# Altium footprint library 高通MSM8916 原理图+PCB Layout_QRD8916_2-4-2_half type_main board_V1.01.PcbLib: 113 footprints (part 3 of 8)
Each footprint in its own frame and in the unit in brackets; x right, y up, seen from the top. Pads: shape width x height; smd on the part's side, far side on the other; paste and mask are expansions set on the pad; w line width, h text height; cw(c..) or ccw(c..) is an arc to the next point about the centre after c.
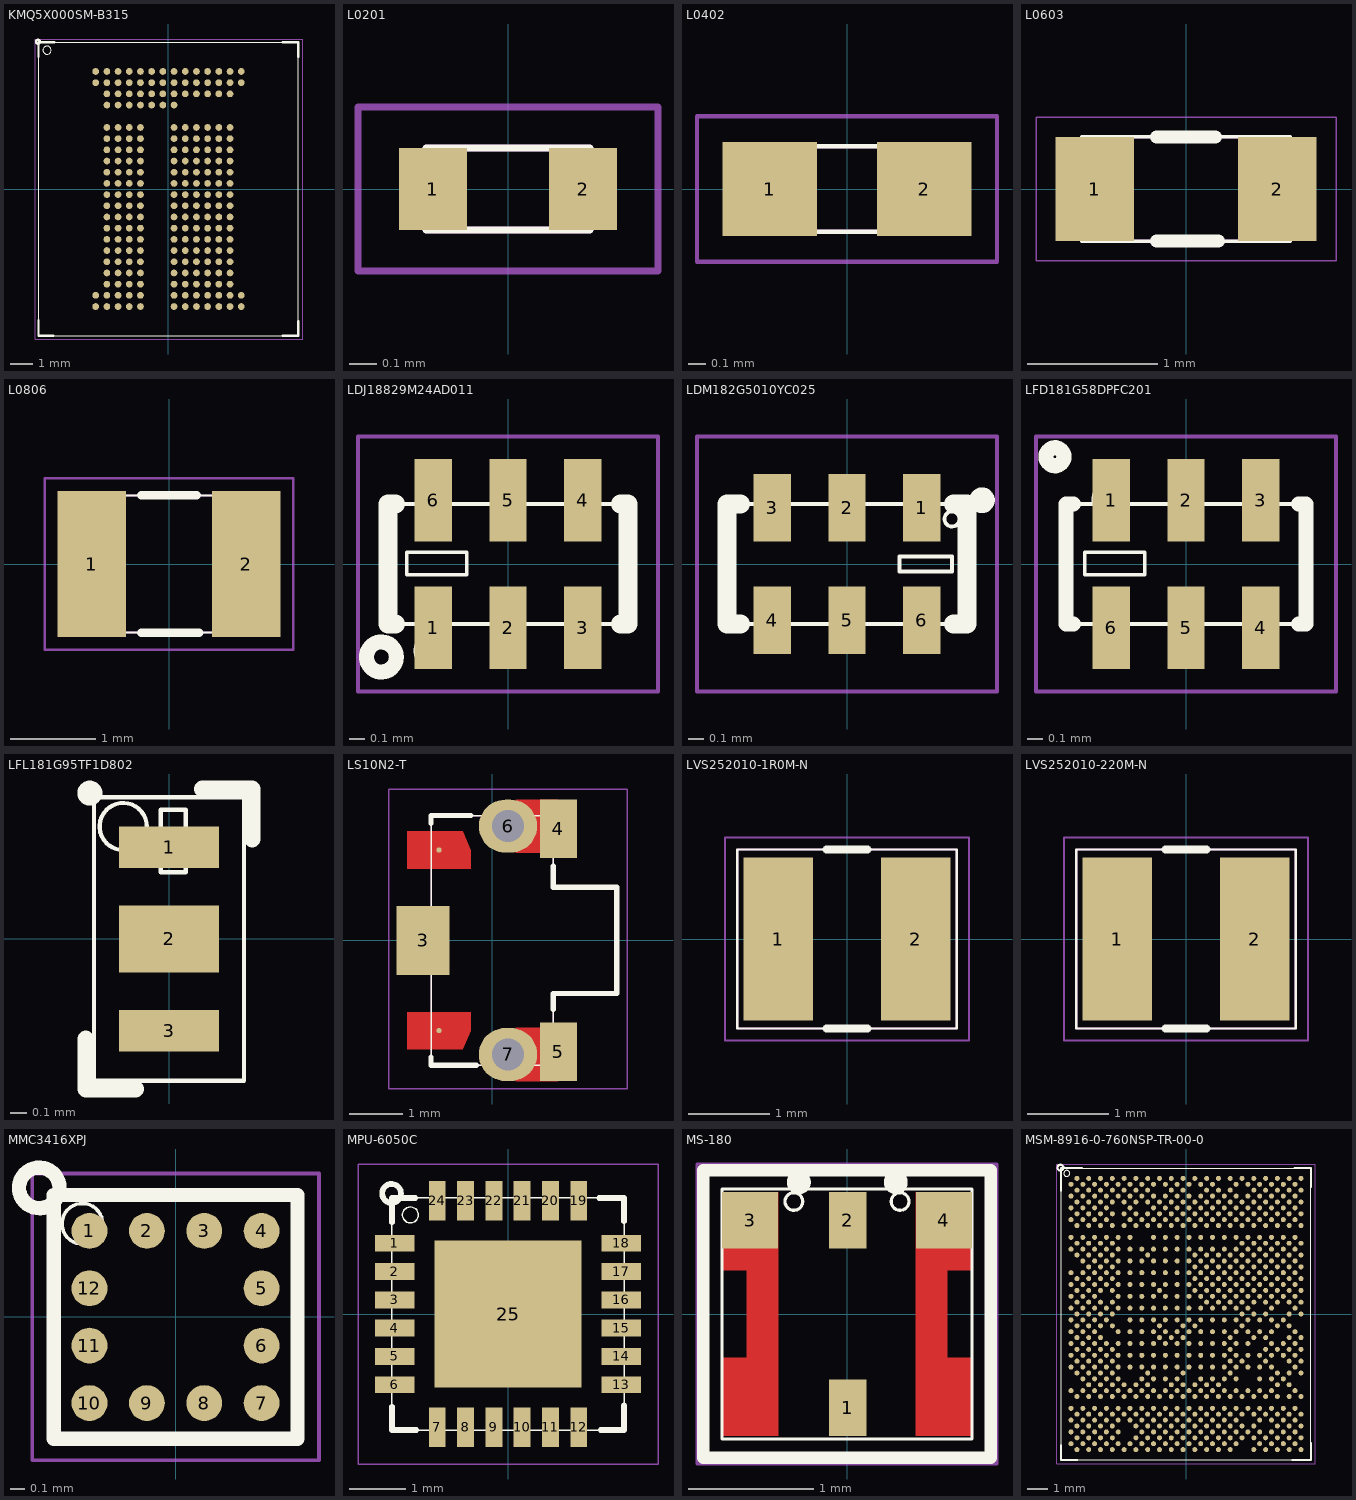
[diagram p2: the footprints below, top view; thin cyan lines are the x and y axes]

## KMQ5X000SM-B315 [mm]
height 1
pads (221):
  round 0.3 smd mask+0.05: A1(-3.25,5.25) A2(-2.75,5.25) A3(-2.25,5.25) A4(-1.75,5.25) A5(-1.25,5.25) A6(-0.75,5.25) A7(-0.25,5.25) A8(0.25,5.25) A9(0.75,5.25) A10(1.25,5.25) A11(1.75,5.25) A12(2.25,5.25) A13(2.75,5.25) A14(3.25,5.25) AA1(-3.25,-4.75) AA2(-2.75,-4.75) AA3(-2.25,-4.75) AA4(-1.75,-4.75) AA5(-1.25,-4.75) AA8(0.25,-4.75) AA9(0.75,-4.75) AA10(1.25,-4.75) AA11(1.75,-4.75) AA12(2.25,-4.75) AA13(2.75,-4.75) AA14(3.25,-4.75) AB1(-3.25,-5.25) AB2(-2.75,-5.25) AB3(-2.25,-5.25) AB4(-1.75,-5.25) AB5(-1.25,-5.25) AB8(0.25,-5.25) AB9(0.75,-5.25) AB10(1.25,-5.25) AB11(1.75,-5.25) AB12(2.25,-5.25) AB13(2.75,-5.25) AB14(3.25,-5.25) B1(-3.25,4.75) B2(-2.75,4.75) B3(-2.25,4.75) B4(-1.75,4.75) B5(-1.25,4.75) B6(-0.75,4.75) B7(-0.25,4.75) B8(0.25,4.75) B9(0.75,4.75) B10(1.25,4.75) B11(1.75,4.75) B12(2.25,4.75) B13(2.75,4.75) B14(3.25,4.75) C2(-2.75,4.25) C3(-2.25,4.25) C4(-1.75,4.25) C5(-1.25,4.25) C6(-0.75,4.25) C7(-0.25,4.25) C8(0.25,4.25) C9(0.75,4.25) C10(1.25,4.25) C11(1.75,4.25) C12(2.25,4.25) C13(2.75,4.25) D2(-2.75,3.75) D3(-2.25,3.75) D4(-1.75,3.75) D5(-1.25,3.75) D6(-0.75,3.75) D7(-0.25,3.75) D8(0.25,3.75) F2(-2.75,2.75) F3(-2.25,2.75) F4(-1.75,2.75) F5(-1.25,2.75) F8(0.25,2.75) F9(0.75,2.75) F10(1.25,2.75) F11(1.75,2.75) F12(2.25,2.75) F13(2.75,2.75) G2(-2.75,2.25) G3(-2.25,2.25) G4(-1.75,2.25) G5(-1.25,2.25) G8(0.25,2.25) G9(0.75,2.25) G10(1.25,2.25) G11(1.75,2.25) G12(2.25,2.25) G13(2.75,2.25) H2(-2.75,1.75) H3(-2.25,1.75) H4(-1.75,1.75) H5(-1.25,1.75) H8(0.25,1.75) H9(0.75,1.75) H10(1.25,1.75) H11(1.75,1.75) H12(2.25,1.75) H13(2.75,1.75) J2(-2.75,1.25) J3(-2.25,1.25) J4(-1.75,1.25) J5(-1.25,1.25) J8(0.25,1.25) J9(0.75,1.25) J10(1.25,1.25) J11(1.75,1.25) J12(2.25,1.25) J13(2.75,1.25) K2(-2.75,0.75) K3(-2.25,0.75) K4(-1.75,0.75) K5(-1.25,0.75) K8(0.25,0.75) K9(0.75,0.75) K10(1.25,0.75) K11(1.75,0.75) K12(2.25,0.75) K13(2.75,0.75) L2(-2.75,0.25) L3(-2.25,0.25) L4(-1.75,0.25) L5(-1.25,0.25) L8(0.25,0.25) L9(0.75,0.25) L10(1.25,0.25) L11(1.75,0.25) L12(2.25,0.25) L13(2.75,0.25) M2(-2.75,-0.25) M3(-2.25,-0.25) M4(-1.75,-0.25) M5(-1.25,-0.25) M8(0.25,-0.25) M9(0.75,-0.25) M10(1.25,-0.25) M11(1.75,-0.25) M12(2.25,-0.25) M13(2.75,-0.25) N2(-2.75,-0.75) N3(-2.25,-0.75) N4(-1.75,-0.75) N5(-1.25,-0.75) N8(0.25,-0.75) N9(0.75,-0.75) N10(1.25,-0.75) N11(1.75,-0.75) N12(2.25,-0.75) N13(2.75,-0.75) P2(-2.75,-1.25) P3(-2.25,-1.25) P4(-1.75,-1.25) P5(-1.25,-1.25) P8(0.25,-1.25) P9(0.75,-1.25) P10(1.25,-1.25) P11(1.75,-1.25) P12(2.25,-1.25) P13(2.75,-1.25) R2(-2.75,-1.75) R3(-2.25,-1.75) R4(-1.75,-1.75) R5(-1.25,-1.75) R8(0.25,-1.75) R9(0.75,-1.75) R10(1.25,-1.75) R11(1.75,-1.75) R12(2.25,-1.75) R13(2.75,-1.75) T2(-2.75,-2.25) T3(-2.25,-2.25) T4(-1.75,-2.25) T5(-1.25,-2.25) T8(0.25,-2.25) T9(0.75,-2.25) T10(1.25,-2.25) T11(1.75,-2.25) T12(2.25,-2.25) T13(2.75,-2.25) U2(-2.75,-2.75) U3(-2.25,-2.75) U4(-1.75,-2.75) U5(-1.25,-2.75) U8(0.25,-2.75) U9(0.75,-2.75) U10(1.25,-2.75) U11(1.75,-2.75) U12(2.25,-2.75) U13(2.75,-2.75) V2(-2.75,-3.25) V3(-2.25,-3.25) V4(-1.75,-3.25) V5(-1.25,-3.25) V8(0.25,-3.25) V9(0.75,-3.25) V10(1.25,-3.25) V11(1.75,-3.25) V12(2.25,-3.25) V13(2.75,-3.25) W2(-2.75,-3.75) W3(-2.25,-3.75) W4(-1.75,-3.75) W5(-1.25,-3.75) W8(0.25,-3.75) W9(0.75,-3.75) W10(1.25,-3.75) W11(1.75,-3.75) W12(2.25,-3.75) W13(2.75,-3.75) Y2(-2.75,-4.25) Y3(-2.25,-4.25) Y4(-1.75,-4.25) Y5(-1.25,-4.25) Y8(0.25,-4.25) Y9(0.75,-4.25) Y10(1.25,-4.25) Y11(1.75,-4.25) Y12(2.25,-4.25) Y13(2.75,-4.25)
Top Overlay:
  circle w0.025: c-5.425,6.2 r0.182
  circle w0.1: c-5.825,6.575 r0.09
  lines w0.025: -5.8,-6.55 5.8,-6.55 5.8,6.55 -5.8,6.55 -5.8,-6.55
  lines w0.1: -5.8,-5.85 -5.8,-6.55 -5.15,-6.55 ; -5.8,5.9 -5.8,6.55 -5.1,6.55 ; 5.1,-6.55 5.8,-6.55 5.8,-5.9 ; 5.1,6.55 5.8,6.55 5.8,5.9
Top Assembly:
  lines w0.025: -5.95,-6.7 6,-6.7 6,6.7 -5.95,6.7 -5.95,-6.7

## L0201 [mm]
height 0.35
pads (2):
  rect 0.25x0.3 smd mask+0.05: 1(-0.275,0) 2(0.275,0)
Top Overlay:
  lines w0.025: -0.3,-0.15 0.3,-0.15 0.3,0.15 -0.3,0.15 -0.3,-0.15
Top Assembly:
  lines w0.025: -0.55,-0.3 0.55,-0.3 0.55,0.3 -0.55,0.3 -0.55,-0.3
Mechanical 9:
  lines w0.025: -0.3,-0.15 0.3,-0.15 0.3,0.15 -0.3,0.15 -0.3,-0.15

## L0402 [mm]
height 0.6
pads (2):
  rect 0.55x0.55 smd paste-0.05 mask+0.05: 1(-0.45,0) 2(0.45,0)
Top Overlay:
  lines w0.025: -0.5,-0.25 -0.5,0.25 0.5,0.25 0.5,-0.25 -0.5,-0.25
Top Assembly:
  lines w0.025: -0.875,-0.425 0.875,-0.425 0.875,0.425 -0.875,0.425 -0.875,-0.425
Mechanical 9:
  lines w0.025: -0.5,-0.25 -0.5,0.25 0.5,0.25 0.5,-0.25 -0.5,-0.25

## L0603 [mm]
height 1
pads (2):
  rect 0.6x0.8 smd paste-0.05 mask+0.05: 1(-0.7,0) 2(0.7,0)
Top Overlay:
  lines w0.025: -0.8,-0.4 0.8,-0.4 0.8,0.4 -0.8,0.4 -0.8,-0.4
  lines w0.1: -0.225,-0.4 0.25,-0.4 ; -0.225,0.4 0.225,0.4
Top Assembly:
  lines w0.01: -1.15,-0.55 1.15,-0.55 1.15,0.55 -1.15,0.55 -1.15,-0.55
Mechanical 9:
  lines w0.025: -0.8,-0.4 0.8,-0.4 0.8,0.4 -0.8,0.4 -0.8,-0.4

## L0806 [mm]
height 1.45
pads (2):
  rect 0.8x1.7 smd paste-0.05 mask+0.05: 1(-0.9,0) 2(0.9,0)
Top Overlay:
  lines w0.025: -1.1,-0.8 1.1,-0.8 1.1,0.8 -1.1,0.8 -1.1,-0.8
  lines w0.1: -0.325,-0.8 0.35,-0.8 ; -0.325,0.8 0.325,0.8
Top Assembly:
  lines w0.025: -1.45,-1 1.45,-1 1.45,1 -1.45,1 -1.45,-1
Mechanical 9:
  lines w0.025: -1.1,-0.8 1.1,-0.8 1.1,0.8 -1.1,0.8 -1.1,-0.8

## LDJ18829M24AD011 [mm]
height 0.7
pads (6):
  rect 0.25x0.55 smd mask+0.05: 1(-0.5,-0.425) 2(0,-0.425) 3(0.5,-0.425) 4(0.5,0.425) 5(0,0.425) 6(-0.5,0.425)
Top Overlay:
  circle w0.025: c-0.508,-0.578 r0.109
  circle w0.1: c-0.844,-0.62 r0.1
  lines w0.025: -0.8,-0.4 0.8,-0.4 0.8,0.4 -0.8,0.4 -0.8,-0.4 ; -0.675,-0.072 -0.275,-0.072 -0.275,0.078 -0.675,0.078 -0.675,-0.072
  lines w0.127: -0.75,-0.4 -0.8,-0.4 -0.8,0.4 -0.75,0.4 ; 0.75,-0.4 0.8,-0.4 0.8,0.4 0.75,0.4
Top Assembly:
  lines w0.025: -1,-0.85 1,-0.85 1,0.85 -1,0.85 -1,-0.85

## LDM182G5010YC025 [mm]
height 0.4
pads (6):
  rect 0.25x0.45 smd mask+0.05: 1(0.5,0.375) 2(0,0.375) 3(-0.5,0.375) 4(-0.5,-0.375) 5(0,-0.375) 6(0.5,-0.375)
Top Overlay:
  circle w0.025: c0.7,0.3 r0.05
  circle w0.1: c0.9,0.425 r0.035
  lines w0.025: -0.8,-0.4 0.8,-0.4 0.8,0.4 -0.8,0.4 -0.8,-0.4 ; 0.35,-0.05 0.7,-0.05 0.7,0.05 0.35,0.05 0.35,-0.05
  lines w0.127: -0.711,-0.4 -0.8,-0.4 -0.8,0.4 -0.711,0.4 ; 0.711,-0.4 0.8,-0.4 0.8,0.4 0.711,0.4
Top Assembly:
  lines w0.025: -1,-0.85 1,-0.85 1,0.85 -1,0.85 -1,-0.85

## LFD181G58DPFC201 [mm]
height 0.7
pads (6):
  rect 0.25x0.55 smd mask+0.05: 1(-0.5,0.425) 2(0,0.425) 3(0.5,0.425) 4(0.5,-0.425) 5(0,-0.425) 6(-0.5,-0.425)
Top Overlay:
  circle w0.025: c-0.508,0.432 r0.109
  circle w0.1: c-0.874,0.715 r0.06
  lines w0.025: -0.8,-0.4 0.8,-0.4 0.8,0.4 -0.8,0.4 -0.8,-0.4 ; -0.675,-0.072 -0.275,-0.072 -0.275,0.078 -0.675,0.078 -0.675,-0.072
  lines w0.1: -0.75,-0.4 -0.8,-0.4 -0.8,0.4 -0.75,0.4 ; 0.75,-0.4 0.8,-0.4 0.8,0.4 0.75,0.4
Top Assembly:
  lines w0.025: -1,-0.85 1,-0.85 1,0.85 -1,0.85 -1,-0.85

## LFL181G95TF1D802 [mm]
height 0.7
pads (3):
  rect 0.6x0.25 smd mask+0.05: 1(0,0.55) 3(0,-0.55)
  rect 0.6x0.4 smd mask+0.05: 2(0,0)
Top Overlay:
  circle w0.025: c-0.275,0.675 r0.141
  circle w0.1: c-0.475,0.875 r0.025
  lines w0.025: -0.45,-0.85 0.45,-0.85 0.45,0.85 -0.45,0.85 -0.45,-0.85 ; -0.05,0.4 -0.05,0.775 0.1,0.775 0.1,0.4 -0.05,0.4
  lines w0.1: -0.5,-0.6 -0.5,-0.9 -0.2,-0.9 ; 0.2,0.9 0.5,0.9 0.5,0.6

## LS10N2-T [mm]
height 1.85
pads (7):
  round 0.1 smd: 1(-1,1.7) 2(-1,-1.7)
  rect 1x1.3 smd mask+0.05: 3(-1.3,0)
  rect 0.7x1.1 smd mask+0.05: 4(1.25,2.1) 5(1.25,-2.1)
  oval 1.1x1 / inner oval 1.2x1 / far side oval 1.1x1 hole 0.6 mask+0.05: 6(0.3,2.15) 7(0.3,-2.15)
Top Layer:
  region: -0.4,1.7 -0.55,2.05 -1.6,2.05 -1.6,1.35 -0.4,1.35
  region: -0.4,-1.7 -0.55,-2.05 -1.6,-2.05 -1.6,-1.35 -0.4,-1.35
  region: 0.45,2.65 1.25,2.65 1.25,1.65 0.45,1.65
  region: 0.45,-1.65 1.25,-1.65 1.25,-2.65 0.45,-2.65
Top Overlay:
  lines w0.025: -1.15,-2.35 1.15,-2.35 1.15,-1 2.35,-1 2.35,1 1.15,1 1.15,2.35 -1.15,2.35 -1.15,-2.35
  lines w0.1: -1.15,-2.2 -1.15,-2.35 -0.3,-2.35 ; -1.15,2.2 -1.15,2.35 -0.4,2.35 ; 1.15,-1.3 1.15,-1 2.35,-1 2.35,1 1.15,1 1.15,1.4
Top Paste:
  region: -0.4,1.7 -0.55,2.05 -1.6,2.05 -1.6,1.35 -0.4,1.35
  region: -0.4,-1.7 -0.55,-2.05 -1.6,-2.05 -1.6,-1.35 -0.4,-1.35
  region: 0.45,2.65 1.25,2.65 1.25,1.65 0.45,1.65
  region: 0.45,-1.65 1.25,-1.65 1.25,-2.65 0.45,-2.65
Top Solder:
  region: -0.35,1.733 -0.507,2.1 -1.65,2.1 -1.65,1.3 -0.35,1.3
  region: -0.35,-1.733 -0.507,-2.1 -1.65,-2.1 -1.65,-1.3 -0.35,-1.3
  region: 0.2,2.7 1.4,2.7 1.4,1.6 0.2,1.6
  region: 0.2,-1.6 1.4,-1.6 1.4,-2.7 0.2,-2.7
Top Assembly:
  lines w0.025: -1.95,-2.8 2.55,-2.8 2.55,2.85 -1.95,2.85 -1.95,-2.8
Mechanical 9:
  lines w0.025: -1.15,-2.35 1.15,-2.35 1.15,-1 2.35,-1 2.35,1 1.15,1 1.15,2.35 -1.15,2.35 -1.15,-2.35

## LVS252010-1R0M-N [mm]
height 1.02
pads (2):
  rect 0.85x2 smd mask+0.05: 1(-0.845,0) 2(0.845,0)
Top Overlay:
  lines w0.025: -1.35,-1.1 1.35,-1.1 1.35,1.1 -1.35,1.1 -1.35,-1.1
  lines w0.1: -0.25,-1.1 0.25,-1.1 ; -0.25,1.1 0.25,1.1
Top Paste:
  region: -1.2,-0.95 -0.5,-0.95 -0.5,-0.1 -1.2,-0.1
  region: -1.2,0.1 -0.5,0.1 -0.5,0.95 -1.2,0.95
  region: 0.5,0.1 1.2,0.1 1.2,0.95 0.5,0.95
  region: 0.5,-0.95 1.2,-0.95 1.2,-0.1 0.5,-0.1
Top Assembly:
  lines w0.025: -1.5,-1.25 1.5,-1.25 1.5,1.25 -1.5,1.25 -1.5,-1.25
Mechanical 9:
  lines w0.025: -1.35,-1.1 1.35,-1.1 1.35,1.1 -1.35,1.1 -1.35,-1.1

## LVS252010-220M-N [mm]
height 1.02
pads (2):
  rect 0.85x2 smd mask+0.05: 1(-0.845,0) 2(0.845,0)
Top Overlay:
  circle w0.025: c-1,0 r0.25
  lines w0.025: -1.35,-1.1 1.35,-1.1 1.35,1.1 -1.35,1.1 -1.35,-1.1
  lines w0.1: -0.25,-1.1 0.25,-1.1 ; -0.25,1.1 0.25,1.1
Top Paste:
  region: -1.2,-0.95 -0.5,-0.95 -0.5,-0.1 -1.2,-0.1
  region: -1.2,0.1 -0.5,0.1 -0.5,0.95 -1.2,0.95
  region: 0.5,0.1 1.2,0.1 1.2,0.95 0.5,0.95
  region: 0.5,-0.95 1.2,-0.95 1.2,-0.1 0.5,-0.1
Top Assembly:
  circle w0.025: c-1,0 r0.25
  lines w0.025: -1.5,-1.25 1.5,-1.25 1.5,1.25 -1.5,1.25 -1.5,-1.25
Mechanical 9:
  lines w0.025: -1.35,-1.1 1.35,-1.1 1.35,1.1 -1.35,1.1 -1.35,-1.1

## MMC3416XPJ [mm]
height 0.79
pads (12):
  round 0.25 smd mask+0.038: 1(-0.6,0.6) 2(-0.2,0.6) 3(0.2,0.6) 4(0.6,0.6) 5(0.6,0.2) 6(0.6,-0.2) 7(0.6,-0.6) 8(0.2,-0.6) 9(-0.2,-0.6) 10(-0.6,-0.6) 11(-0.6,-0.2) 12(-0.6,0.2)
Top Overlay:
  circle w0.025: c-0.65,0.65 r0.141
  circle w0.1: c-0.95,0.9 r0.141
  lines w0.025: -0.825,-0.825 0.825,-0.825 0.825,0.825 -0.825,0.825 -0.825,-0.825
  lines w0.1: -0.85,-0.85 0.85,-0.85 0.85,0.85 -0.85,0.85 -0.85,-0.85
Top Assembly:
  lines w0.025: -1,-1 1,-1 1,1 -1,1 -1,-1

## MPU-6050C [mm]
height 0.95
pads (25):
  rect 0.7x0.3 smd mask+0.05: 1(-2,1.25) 2(-2,0.75) 3(-2,0.25) 4(-2,-0.25) 5(-2,-0.75) 6(-2,-1.25) 13(2,-1.25) 14(2,-0.75) 15(2,-0.25) 16(2,0.25) 17(2,0.75) 18(2,1.25)
  rect 0.3x0.7 smd mask+0.05: 7(-1.25,-2) 8(-0.75,-2) 9(-0.25,-2) 10(0.25,-2) 11(0.75,-2) 12(1.25,-2) 19(1.25,2) 20(0.75,2) 21(0.25,2) 22(-0.25,2) 23(-0.75,2) 24(-1.25,2)
  rect 2.6x2.6 smd mask+0.05: 25(0,0)
Top Overlay:
  circle w0.1: c-2.057,2.13 r0.167
  circle w0.025: c-1.725,1.75 r0.141
  lines w0.025: -2.05,-2.05 2.05,-2.05 2.05,2.05 -2.05,2.05 -2.05,-2.05
  lines w0.1: -2.05,-1.64 -2.05,-2.05 -1.618,-2.05 ; -2.05,1.622 -2.05,2.05 -1.638,2.05 ; 1.615,2.05 2.05,2.05 2.05,1.64 ; 1.637,-2.05 2.05,-2.05 2.05,-1.617
Top Paste:
  region: -1.15,0.15 -0.15,0.15 -0.15,1.15 -1.15,1.15
  region: -1.15,-1.15 -0.15,-1.15 -0.15,-0.15 -1.15,-0.15
  region: 0.15,-1.15 1.15,-1.15 1.15,-0.15 0.15,-0.15
  region: 0.15,0.15 1.15,0.15 1.15,1.15 0.15,1.15
Top Assembly:
  lines w0.025: -2.65,-2.65 -2.65,2.65 2.65,2.65 2.65,-2.65 -2.65,-2.65

## MS-180 [mm]
height 1
pads (4):
  rect 0.3x0.45 smd mask+0.05: 1(0.005,-0.75) 2(0.005,0.75)
  rrect0% 0.45x0.45 smd mask+0.05: 3(-0.775,0.75) 4(0.775,0.75)
Top Layer:
  region: -1,0.975 -0.55,0.975 -0.55,-0.975 -1,-0.975 -1,-0.35 -0.8,-0.35 -0.8,0.35 -1,0.35
  region: 0.55,0.975 1,0.975 1,0.35 0.8,0.35 0.8,-0.35 1,-0.35 1,-0.975 0.55,-0.975
Top Overlay:
  circle w0.025: c0.425,0.9 r0.071
  circle w0.025: c-0.425,0.9 r0.071
  circle w0.1: c-0.385,1.054 r0.046
  circle w0.1: c0.39,1.054 r0.046
  lines w0.025: -1,-1 1,-1 1,1 -1,1 -1,-1
  lines w0.1: -1.15,-1.15 1.15,-1.15 1.15,1.15 -1.15,1.15 -1.15,-1.15
Top Paste:
  region: -0.8,0.125 -0.55,0.125 -0.55,-0.125 -0.8,-0.125
  region: -1,-0.525 -0.55,-0.525 -0.55,-0.975 -1,-0.975
  region: 0.55,0.125 0.8,0.125 0.8,-0.125 0.55,-0.125
  region: 0.55,-0.525 1,-0.525 1,-0.975 0.55,-0.975
Top Solder:
  region: -1.05,1.025 -0.5,1.025 -0.5,-1.025 -1.05,-1.025 -1.05,-0.3 -0.85,-0.3 -0.85,0.3 -1.05,0.3
  region: 1.05,1.025 0.5,1.025 0.5,-1.025 1.05,-1.025 1.05,-0.3 0.85,-0.3 0.85,0.3 1.05,0.3
Top Assembly:
  lines w0.025: -1.2,-1.2 1.2,-1.2 1.2,1.2 -1.2,1.2 -1.2,-1.2

## MSM-8916-0-760NSP-TR-00-0 [mm]
height 0.96
pads (760):
  round 0.24 smd paste+0.005 mask+0.038: A2(-5.235,6.509) A4(-4.67,6.509) A6(-4.103,6.509) A8(-3.538,6.509) A10(-2.972,6.509) A12(-2.405,6.509) A14(-1.84,6.509) A16(-1.274,6.509) A18(-0.707,6.509) A20(-0.142,6.509) A22(0.425,6.509) A24(0.991,6.509) A26(1.556,6.509) A28(2.123,6.509) A30(2.689,6.509) A32(3.254,6.509) A34(3.821,6.509) A36(4.387,6.509) A38(4.952,6.509) A40(5.519,6.509) AA2(-5.235,0.566) AA4(-4.67,0.566) AA6(-4.103,0.566) AA8(-3.538,0.566) AA24(0.991,0.566) AA26(1.556,0.566) AA28(2.123,0.566) AA30(2.689,0.566) AA32(3.254,0.566) AA34(3.821,0.566) AA36(4.387,0.566) AA38(4.952,0.566) AA40(5.519,0.566) AB1(-5.519,0.283) AB3(-4.952,0.283) AB5(-4.387,0.283) AB7(-3.821,0.283) AB9(-3.254,0.283) AB11(-2.689,0.283) AB13(-2.123,0.283) AB15(-1.556,0.283) AB17(-0.991,0.283) AB19(-0.425,0.283) AB21(0.142,0.283) AB23(0.707,0.283) AB25(1.274,0.283) AB27(1.84,0.283) AB29(2.405,0.283) AB31(2.972,0.283) AB35(4.103,0.283) AB39(5.235,0.283) AC2(-5.235,0) AC4(-4.67,0) AC6(-4.103,0) AC8(-3.538,0) AC30(2.689,0) AC32(3.254,0) AC34(3.821,0) AC38(4.952,0) AC40(5.519,0) AD1(-5.519,-0.283) AD3(-4.952,-0.283) AD5(-4.387,-0.283) AD7(-3.821,-0.283) AD11(-2.689,-0.283) AD13(-2.123,-0.283) AD15(-1.556,-0.283) AD17(-0.991,-0.283) AD19(-0.425,-0.283) AD21(0.142,-0.283) AD23(0.707,-0.283) AD25(1.274,-0.283) AD27(1.84,-0.283) AD29(2.405,-0.283) AD31(2.972,-0.283) AD33(3.538,-0.283) AD35(4.103,-0.283) AD37(4.67,-0.283) AE2(-5.235,-0.566) AE4(-4.67,-0.566) AE6(-4.103,-0.566) AE8(-3.538,-0.566) AE16(-1.274,-0.566) AE20(-0.142,-0.566) AE22(0.425,-0.566) AE30(2.689,-0.566) AE36(4.387,-0.566) AE38(4.952,-0.566) AF1(-5.519,-0.849) AF3(-4.952,-0.849) AF5(-4.387,-0.849) AF9(-3.254,-0.849) AF11(-2.689,-0.849) AF13(-2.123,-0.849) AF15(-1.556,-0.849) AF17(-0.991,-0.849) AF19(-0.425,-0.849) AF21(0.142,-0.849) AF23(0.707,-0.849) AF25(1.274,-0.849) AF27(1.84,-0.849) AF29(2.405,-0.849) AF31(2.972,-0.849) AF33(3.538,-0.849) AF35(4.103,-0.849) AF39(5.235,-0.849) AG2(-5.235,-1.132) AG4(-4.67,-1.132) AG6(-4.103,-1.132) AG16(-1.274,-1.132) AG18(-0.707,-1.132) AG20(-0.142,-1.132) AG28(2.123,-1.132) AG32(3.254,-1.132) AG34(3.821,-1.132) AG38(4.952,-1.132) AG40(5.519,-1.132) AH1(-5.519,-1.415) AH3(-4.952,-1.415) AH5(-4.387,-1.415) AH7(-3.821,-1.415) AH9(-3.254,-1.415) AH11(-2.689,-1.415) AH13(-2.123,-1.415) AH15(-1.556,-1.415) AH17(-0.991,-1.415) AH19(-0.425,-1.415) AH21(0.142,-1.415) AH23(0.707,-1.415) AH25(1.274,-1.415) AH27(1.84,-1.415) AH29(2.405,-1.415) AH31(2.972,-1.415) AH35(4.103,-1.415) AH37(4.67,-1.415) AH39(5.235,-1.415) AJ2(-5.235,-1.698) AJ4(-4.67,-1.698) AJ6(-4.103,-1.698) AJ8(-3.538,-1.698) AJ28(2.123,-1.698) AJ34(3.821,-1.698) AJ36(4.387,-1.698) AJ38(4.952,-1.698) AJ40(5.519,-1.698) AK1(-5.519,-1.981) AK3(-4.952,-1.981) AK5(-4.387,-1.981) AK7(-3.821,-1.981) AK9(-3.254,-1.981) AK11(-2.689,-1.981) AK13(-2.123,-1.981) AK15(-1.556,-1.981) AK17(-0.991,-1.981) AK19(-0.425,-1.981) AK21(0.142,-1.981) AK23(0.707,-1.981) AK25(1.274,-1.981) AK27(1.84,-1.981) AK29(2.405,-1.981) AK31(2.972,-1.981) AK33(3.538,-1.981) AK35(4.103,-1.981) AK37(4.67,-1.981) AK39(5.235,-1.981) AL2(-5.235,-2.264) AL4(-4.67,-2.264) AL6(-4.103,-2.264) AL8(-3.538,-2.264) AL28(2.123,-2.264) AL30(2.689,-2.264) AL34(3.821,-2.264) AL38(4.952,-2.264) AL40(5.519,-2.264) AM1(-5.519,-2.547) AM3(-4.952,-2.547) AM5(-4.387,-2.547) AM7(-3.821,-2.547) AM9(-3.254,-2.547) AM11(-2.689,-2.547) AM13(-2.123,-2.547) AM15(-1.556,-2.547) AM17(-0.991,-2.547) AM19(-0.425,-2.547) AM21(0.142,-2.547) AM23(0.707,-2.547) AM25(1.274,-2.547) AM27(1.84,-2.547) AM29(2.405,-2.547) AM31(2.972,-2.547) AM33(3.538,-2.547) AM35(4.103,-2.547) AM39(5.235,-2.547) AN2(-5.235,-2.83) AN4(-4.67,-2.83) AN6(-4.103,-2.83) AN8(-3.538,-2.83) AN14(-1.84,-2.83) AN20(-0.142,-2.83) AN28(2.123,-2.83) AN36(4.387,-2.83) AN38(4.952,-2.83) AN40(5.519,-2.83) AP3(-4.952,-3.113) AP5(-4.387,-3.113) AP7(-3.821,-3.113) AP9(-3.254,-3.113) AP13(-2.123,-3.113) AP15(-1.556,-3.113) AP17(-0.991,-3.113) AP19(-0.425,-3.113) AP23(0.707,-3.113) AP25(1.274,-3.113) AP27(1.84,-3.113) AP29(2.405,-3.113) AP33(3.538,-3.113) AP35(4.103,-3.113) AP37(4.67,-3.113) AR4(-4.67,-3.396) AR6(-4.103,-3.396) AR8(-3.538,-3.396) AR10(-2.972,-3.396) AR12(-2.405,-3.396) AR14(-1.84,-3.396) AR18(-0.707,-3.396) AR20(-0.142,-3.396) AR22(0.425,-3.396) AR24(0.991,-3.396) AR26(1.556,-3.396) AR36(4.387,-3.396) AR38(4.952,-3.396) AT1(-5.519,-3.679) AT3(-4.952,-3.679) AT5(-4.387,-3.679) AT7(-3.821,-3.679) AT9(-3.254,-3.679) AT11(-2.689,-3.679) AT13(-2.123,-3.679) AT15(-1.556,-3.679) AT17(-0.991,-3.679) AT19(-0.425,-3.679) AT21(0.142,-3.679) AT23(0.707,-3.679) AT25(1.274,-3.679) AT27(1.84,-3.679) AT29(2.405,-3.679) AT31(2.972,-3.679) AT33(3.538,-3.679) AT35(4.103,-3.679) AT39(5.235,-3.679) AU2(-5.235,-3.962) AU4(-4.67,-3.962) AU6(-4.103,-3.962) AU8(-3.538,-3.962) AU10(-2.972,-3.962) AU12(-2.405,-3.962) AU14(-1.84,-3.962) AU16(-1.274,-3.962) AU18(-0.707,-3.962) AU20(-0.142,-3.962) AU22(0.425,-3.962) AU24(0.991,-3.962) AU26(1.556,-3.962) AU28(2.123,-3.962) AU30(2.689,-3.962) AU32(3.254,-3.962) AU34(3.821,-3.962) AU36(4.387,-3.962) AU38(4.952,-3.962) AU40(5.519,-3.962) AV1(-5.519,-4.528) AV3(-4.952,-4.528) AV5(-4.387,-4.528) AV7(-3.821,-4.528) AV9(-3.254,-4.528) AV11(-2.689,-4.528) AV13(-2.123,-4.528) AV15(-1.556,-4.528) AV17(-0.991,-4.528) AV19(-0.425,-4.528) AV21(0.142,-4.528) AV23(0.707,-4.528) AV25(1.274,-4.528) AV27(1.84,-4.528) AV29(2.405,-4.528) AV31(2.972,-4.528) AV33(3.538,-4.528) AV35(4.103,-4.528) AV37(4.67,-4.528) AV39(5.235,-4.528) AW2(-5.235,-4.811) AW4(-4.67,-4.811) AW6(-4.103,-4.811) AW8(-3.538,-4.811) AW10(-2.972,-4.811) AW12(-2.405,-4.811) AW14(-1.84,-4.811) AW16(-1.274,-4.811) AW18(-0.707,-4.811) AW20(-0.142,-4.811) AW22(0.425,-4.811) AW24(0.991,-4.811) AW26(1.556,-4.811) AW28(2.123,-4.811) AW30(2.689,-4.811) AW32(3.254,-4.811) AW34(3.821,-4.811) AW36(4.387,-4.811) AW38(4.952,-4.811) AW40(5.519,-4.811) AY1(-5.519,-5.094) AY3(-4.952,-5.094) AY5(-4.387,-5.094) AY7(-3.821,-5.094) AY9(-3.254,-5.094) AY11(-2.689,-5.094) AY13(-2.123,-5.094) AY15(-1.556,-5.094) AY17(-0.991,-5.094) AY19(-0.425,-5.094) AY21(0.142,-5.094) AY23(0.707,-5.094) AY25(1.274,-5.094) AY27(1.84,-5.094) AY29(2.405,-5.094) AY33(3.538,-5.094) AY35(4.103,-5.094) AY37(4.67,-5.094) AY39(5.235,-5.094) B1(-5.519,6.226) B3(-4.952,6.226) B5(-4.387,6.226) B7(-3.821,6.226) B9(-3.254,6.226) B11(-2.689,6.226) B13(-2.123,6.226) B15(-1.556,6.226) B17(-0.991,6.226) B19(-0.425,6.226) B21(0.142,6.226) B23(0.707,6.226) B25(1.274,6.226) B29(2.405,6.226) B31(2.972,6.226) B33(3.538,6.226) B35(4.103,6.226) B37(4.67,6.226) B39(5.235,6.226) BA2(-5.235,-5.377) BA4(-4.67,-5.377) BA6(-4.103,-5.377) BA8(-3.538,-5.377) BA12(-2.405,-5.377) BA14(-1.84,-5.377) BA16(-1.274,-5.377) BA18(-0.707,-5.377) BA20(-0.142,-5.377) BA22(0.425,-5.377) BA24(0.991,-5.377) BA26(1.556,-5.377) BA28(2.123,-5.377) BA30(2.689,-5.377) BA32(3.254,-5.377) BA36(4.387,-5.377) BA38(4.952,-5.377) BA40(5.519,-5.377) BB1(-5.519,-5.66) BB3(-4.952,-5.66) BB5(-4.387,-5.66) BB7(-3.821,-5.66) BB9(-3.254,-5.66) BB13(-2.123,-5.66) BB15(-1.556,-5.66) BB17(-0.991,-5.66) BB19(-0.425,-5.66) BB21(0.142,-5.66) BB23(0.707,-5.66) BB25(1.274,-5.66) BB27(1.84,-5.66) BB29(2.405,-5.66) BB31(2.972,-5.66) BB33(3.538,-5.66) BB35(4.103,-5.66) BB37(4.67,-5.66) BB39(5.235,-5.66) BC2(-5.235,-5.943) BC4(-4.67,-5.943) BC6(-4.103,-5.943) BC8(-3.538,-5.943) BC12(-2.405,-5.943) BC14(-1.84,-5.943) BC16(-1.274,-5.943) BC18(-0.707,-5.943) BC20(-0.142,-5.943) BC22(0.425,-5.943) BC24(0.991,-5.943) BC26(1.556,-5.943) BC28(2.123,-5.943) BC30(2.689,-5.943) BC32(3.254,-5.943) BC34(3.821,-5.943) BC36(4.387,-5.943) BC38(4.952,-5.943) BC40(5.519,-5.943) BD1(-5.519,-6.226) BD3(-4.952,-6.226) BD5(-4.387,-6.226) BD7(-3.821,-6.226) BD9(-3.254,-6.226) BD11(-2.689,-6.226) BD13(-2.123,-6.226) BD15(-1.556,-6.226) BD17(-0.991,-6.226) BD19(-0.425,-6.226) BD21(0.142,-6.226) BD23(0.707,-6.226) BD25(1.274,-6.226) BD27(1.84,-6.226) BD29(2.405,-6.226) BD33(3.538,-6.226) BD35(4.103,-6.226) BD37(4.67,-6.226) BD39(5.235,-6.226) BE2(-5.235,-6.509) BE4(-4.67,-6.509) BE6(-4.103,-6.509) BE8(-3.538,-6.509) BE10(-2.972,-6.509) BE12(-2.405,-6.509) BE14(-1.84,-6.509) BE16(-1.274,-6.509) BE18(-0.707,-6.509) BE20(-0.142,-6.509) BE22(0.425,-6.509) BE24(0.991,-6.509) BE26(1.556,-6.509) BE28(2.123,-6.509) BE32(3.254,-6.509) BE34(3.821,-6.509) BE36(4.387,-6.509) BE38(4.952,-6.509) BE40(5.519,-6.509) C2(-5.235,5.943) C4(-4.67,5.943) C6(-4.103,5.943) C8(-3.538,5.943) C10(-2.972,5.943) C12(-2.405,5.943) C14(-1.84,5.943) C18(-0.707,5.943) C20(-0.142,5.943) C24(0.991,5.943) C26(1.556,5.943) C28(2.123,5.943) C32(3.254,5.943) C34(3.821,5.943) C36(4.387,5.943) C38(4.952,5.943) C40(5.519,5.943) D1(-5.519,5.66) D3(-4.952,5.66) D5(-4.387,5.66) D7(-3.821,5.66) D9(-3.254,5.66) D11(-2.689,5.66) D13(-2.123,5.66) D15(-1.556,5.66) D17(-0.991,5.66) D19(-0.425,5.66) D21(0.142,5.66) D23(0.707,5.66) D25(1.274,5.66) D27(1.84,5.66) D29(2.405,5.66) D31(2.972,5.66) D33(3.538,5.66) D35(4.103,5.66) D37(4.67,5.66) D39(5.235,5.66) E2(-5.235,5.377) E4(-4.67,5.377) E6(-4.103,5.377) E8(-3.538,5.377) E10(-2.972,5.377) E12(-2.405,5.377) E14(-1.84,5.377) E16(-1.274,5.377) E18(-0.707,5.377) E20(-0.142,5.377) E22(0.425,5.377) E24(0.991,5.377) E26(1.556,5.377) E28(2.123,5.377) E30(2.689,5.377) E32(3.254,5.377) E34(3.821,5.377) E36(4.387,5.377) E38(4.952,5.377) E40(5.519,5.377) F1(-5.519,5.094) F3(-4.952,5.094) F5(-4.387,5.094) F7(-3.821,5.094) F11(-2.689,5.094) F15(-1.556,5.094) F17(-0.991,5.094) F19(-0.425,5.094) F21(0.142,5.094) F23(0.707,5.094) F25(1.274,5.094) F27(1.84,5.094) F29(2.405,5.094) F31(2.972,5.094) F33(3.538,5.094) F35(4.103,5.094) F37(4.67,5.094) F39(5.235,5.094) G2(-5.235,4.811) G4(-4.67,4.811) G6(-4.103,4.811) G8(-3.538,4.811) G10(-2.972,4.811) G12(-2.405,4.811) G14(-1.84,4.811) G16(-1.274,4.811) G18(-0.707,4.811) G20(-0.142,4.811) G22(0.425,4.811) G24(0.991,4.811) G26(1.556,4.811) G28(2.123,4.811) G30(2.689,4.811) G32(3.254,4.811) G34(3.821,4.811) G36(4.387,4.811) G38(4.952,4.811) G40(5.519,4.811) H1(-5.519,4.528) H3(-4.952,4.528) H5(-4.387,4.528) H7(-3.821,4.528) H11(-2.689,4.528) H13(-2.123,4.528) H15(-1.556,4.528) H17(-0.991,4.528) H19(-0.425,4.528) H21(0.142,4.528) H23(0.707,4.528) H25(1.274,4.528) H27(1.84,4.528) H29(2.405,4.528) H31(2.972,4.528) H33(3.538,4.528) H35(4.103,4.528) H37(4.67,4.528) H39(5.235,4.528) J2(-5.235,4.245) J4(-4.67,4.245) J6(-4.103,4.245) J8(-3.538,4.245) J10(-2.972,4.245) J12(-2.405,4.245) J14(-1.84,4.245) J16(-1.274,4.245) J18(-0.707,4.245) J20(-0.142,4.245) J22(0.425,4.245) J24(0.991,4.245) J26(1.556,4.245) J28(2.123,4.245) J30(2.689,4.245) J32(3.254,4.245) J34(3.821,4.245) J36(4.387,4.245) J38(4.952,4.245) J40(5.519,4.245) K1(-5.519,3.679) K3(-4.952,3.679) K5(-4.387,3.679) K7(-3.821,3.679) K9(-3.254,3.679) K11(-2.689,3.679) K15(-1.556,3.679) K17(-0.991,3.679) K19(-0.425,3.679) K21(0.142,3.679) K23(0.707,3.679) K25(1.274,3.679) K27(1.84,3.679) K29(2.405,3.679) K31(2.972,3.679) K33(3.538,3.679) K35(4.103,3.679) K37(4.67,3.679) K39(5.235,3.679) L2(-5.235,3.396) L4(-4.67,3.396) L6(-4.103,3.396) L8(-3.538,3.396) L30(2.689,3.396) L32(3.254,3.396) L34(3.821,3.396) L36(4.387,3.396) L38(4.952,3.396) L40(5.519,3.396) M1(-5.519,3.113) M3(-4.952,3.113) M5(-4.387,3.113) M7(-3.821,3.113) M9(-3.254,3.113) M11(-2.689,3.113) M13(-2.123,3.113) M15(-1.556,3.113) M17(-0.991,3.113) M19(-0.425,3.113) M21(0.142,3.113) M23(0.707,3.113) M25(1.274,3.113) M27(1.84,3.113) M29(2.405,3.113) M31(2.972,3.113) M33(3.538,3.113) M35(4.103,3.113) M37(4.67,3.113) M39(5.235,3.113) N2(-5.235,2.83) N4(-4.67,2.83) N6(-4.103,2.83) N8(-3.538,2.83) N14(-1.84,2.83) N22(0.425,2.83) N24(0.991,2.83) N26(1.556,2.83) N28(2.123,2.83) N30(2.689,2.83) N32(3.254,2.83) N34(3.821,2.83) N36(4.387,2.83) N38(4.952,2.83) N40(5.519,2.83) P3(-4.952,2.547) P5(-4.387,2.547) P7(-3.821,2.547) P9(-3.254,2.547) P11(-2.689,2.547) P13(-2.123,2.547) P15(-1.556,2.547) P17(-0.991,2.547) P19(-0.425,2.547) P21(0.142,2.547) P23(0.707,2.547) P25(1.274,2.547) P27(1.84,2.547) P29(2.405,2.547) P31(2.972,2.547) P33(3.538,2.547) P35(4.103,2.547) P37(4.67,2.547) P39(5.235,2.547) R4(-4.67,2.264) R6(-4.103,2.264) R8(-3.538,2.264) R22(0.425,2.264) R24(0.991,2.264) R26(1.556,2.264) R28(2.123,2.264) R30(2.689,2.264) R32(3.254,2.264) R34(3.821,2.264) R36(4.387,2.264) R38(4.952,2.264) R40(5.519,2.264) T1(-5.519,1.981) T3(-4.952,1.981) T5(-4.387,1.981) T7(-3.821,1.981) T9(-3.254,1.981) T11(-2.689,1.981) T13(-2.123,1.981) T15(-1.556,1.981) T17(-0.991,1.981) T19(-0.425,1.981) T21(0.142,1.981) T23(0.707,1.981) T25(1.274,1.981) T27(1.84,1.981) T29(2.405,1.981) T31(2.972,1.981) T33(3.538,1.981) T35(4.103,1.981) T37(4.67,1.981) T39(5.235,1.981) U2(-5.235,1.698) U4(-4.67,1.698) U6(-4.103,1.698) U8(-3.538,1.698) U22(0.425,1.698) U24(0.991,1.698) U26(1.556,1.698) U28(2.123,1.698) U30(2.689,1.698) U32(3.254,1.698) U34(3.821,1.698) U36(4.387,1.698) U38(4.952,1.698) U40(5.519,1.698) V1(-5.519,1.415) V3(-4.952,1.415) V5(-4.387,1.415) V7(-3.821,1.415) V9(-3.254,1.415) V11(-2.689,1.415) V13(-2.123,1.415) V15(-1.556,1.415) V17(-0.991,1.415) V19(-0.425,1.415) V21(0.142,1.415) V23(0.707,1.415) V25(1.274,1.415) V27(1.84,1.415) V29(2.405,1.415) V31(2.972,1.415) V33(3.538,1.415) V35(4.103,1.415) V37(4.67,1.415) V39(5.235,1.415) W2(-5.235,1.132) W4(-4.67,1.132) W6(-4.103,1.132) W8(-3.538,1.132) W16(-1.274,1.132) W22(0.425,1.132) W24(0.991,1.132) W26(1.556,1.132) W28(2.123,1.132) W30(2.689,1.132) W32(3.254,1.132) W34(3.821,1.132) W36(4.387,1.132) W38(4.952,1.132) W40(5.519,1.132) Y1(-5.519,0.849) Y3(-4.952,0.849) Y5(-4.387,0.849) Y9(-3.254,0.849) Y11(-2.689,0.849) Y13(-2.123,0.849) Y15(-1.556,0.849) Y17(-0.991,0.849) Y19(-0.425,0.849) Y21(0.142,0.849) Y23(0.707,0.849) Y25(1.274,0.849) Y27(1.84,0.849) Y29(2.405,0.849) Y31(2.972,0.849) Y33(3.538,0.849) Y35(4.103,0.849) Y37(4.67,0.849) Y39(5.235,0.849)
Top Overlay:
  circle w0.025: c-5.725,6.75 r0.141
  circle w0.1: c-6.025,7.025 r0.141
  lines w0.025: -6,-7 6,-7 6,7 -6,7 -6,-7
  lines w0.1: -6,-6.3 -6,-7 -5.2,-7 ; -6,5.9 -6,7 -5,7 ; 5.1,-7 6,-7 6,-6.2 ; 5.2,7 6,7 6,6.1
Top Assembly:
  lines w0.025: -6.2,-7.2 6.2,-7.2 6.2,7.2 -6.2,7.2 -6.2,-7.2